# Altium schematic symbol library WFI32E01PE-I.SchLib: 1 symbol
Pins are listed as number, name and electrical type; pins without a type are passive.

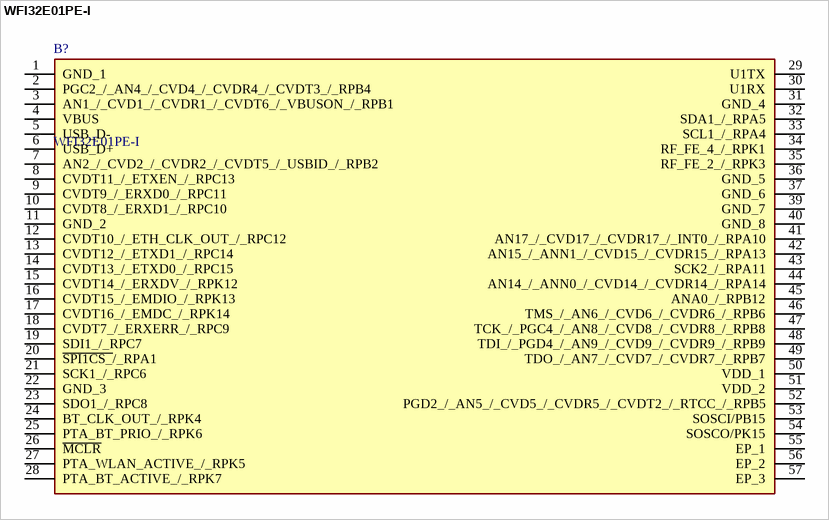
[diagram p0: symbol WFI32E01PE-I]

## WFI32E01PE-I
designator B?
WiFi Modules - 802.11 54-pad Wi-Fi SoC module, 802.11 b/g/n, 1MB Flash, 320KB RAM, Crypto, PCB ant; Manufacturer_Name: Microchip; Geometry.Height: 2.6mm; Mouser Part Number: 579-WFI32E01PE-I; Mouser Price/Stock: https://www.mouser.co.uk/ProductDetail/Microchip-Technology-Atmel/WFI32E01PE-I?qs=W%2FMpXkg%252BdQ6FpmXU%2Fd7PKw%3D%3D; Manufacturer_Part_Number: WFI32E01PE-I; Datasheet Link: https://ww1.microchip.com/downloads/aemDocuments/documents/WSG/ProductDocuments/DataSheets/PIC32MZ1025W104-MCU-and-WFI32E01-Module-with-Wi-Fi-and-Hardware-based-Security-Accelerator-Data-Sheet-DS70005425.pdf
footprint WFI32E01PEI
pins: 1 GND_1, 2 PGC2_/_AN4_/_CVD4_/_CVDR4_/_CVDT3_/_RPB4, 3 AN1_/_CVD1_/_CVDR1_/_CVDT6_/_VBUSON_/_RPB1, 4 VBUS, 5 USB_D-, 6 USB_D+, 7 AN2_/_CVD2_/_CVDR2_/_CVDT5_/_USBID_/_RPB2, 8 CVDT11_/_ETXEN_/_RPC13, 9 CVDT9_/_ERXD0_/_RPC11, 10 CVDT8_/_ERXD1_/_RPC10, 11 GND_2, 12 CVDT10_/_ETH_CLK_OUT_/_RPC12, 13 CVDT12_/_ETXD1_/_RPC14, 14 CVDT13_/_ETXD0_/_RPC15, 15 CVDT14_/_ERXDV_/_RPK12, 16 CVDT15_/_EMDIO_/_RPK13, 17 CVDT16_/_EMDC_/_RPK14, 18 CVDT7_/_ERXERR_/_RPC9, 19 SDI1_/_RPC7, 20 ~{SPI1CS_}/_RPA1, 21 SCK1_/_RPC6, 22 GND_3, 23 SDO1_/_RPC8, 24 BT_CLK_OUT_/_RPK4, 25 PTA_BT_PRIO_/_RPK6, 26 ~{MCLR}, 27 PTA_WLAN_ACTIVE_/_RPK5, 28 PTA_BT_ACTIVE_/_RPK7, 29 U1TX, 30 U1RX, 31 GND_4, 32 SDA1_/_RPA5, 33 SCL1_/_RPA4, 34 RF_FE_4_/_RPK1, 35 RF_FE_2_/_RPK3, 36 GND_5, 37 GND_6, 39 GND_7, 40 GND_8, 41 AN17_/_CVD17_/_CVDR17_/_INT0_/_RPA10, 42 AN15_/_ANN1_/_CVD15_/_CVDR15_/_RPA13, 43 SCK2_/_RPA11, 44 AN14_/_ANN0_/_CVD14_/_CVDR14_/_RPA14, 45 ANA0_/_RPB12, 46 TMS_/_AN6_/_CVD6_/_CVDR6_/_RPB6, 47 TCK_/_PGC4_/_AN8_/_CVD8_/_CVDR8_/_RPB8, 48 TDI_/_PGD4_/_AN9_/_CVD9_/_CVDR9_/_RPB9, 49 TDO_/_AN7_/_CVD7_/_CVDR7_/_RPB7, 50 VDD_1, 51 VDD_2, 52 PGD2_/_AN5_/_CVD5_/_CVDR5_/_CVDT2_/_RTCC_/_RPB5, 53 SOSCI/PB15, 54 SOSCO/PK15, 55 EP_1, 56 EP_2, 57 EP_3